# EAGLE library part LM536025QPWPRQ1 (library LM53602)
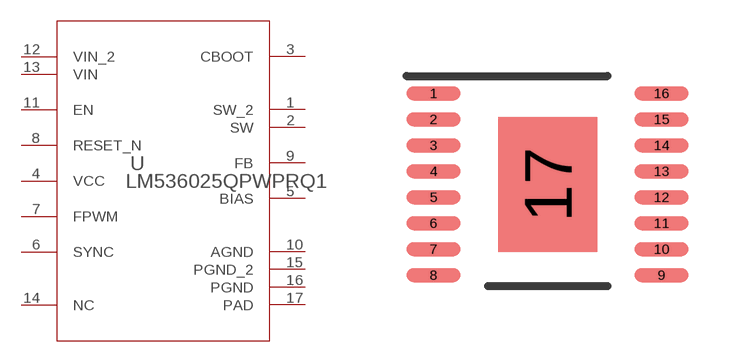
[diagram p0: symbol with the pads of PWP0016H_N; footprint PWP0016H_N]

Designator prefix U

## LM536025QPWPRQ1 (COMPTYPE: IC; MANUFACTURER: Texas Instruments; MANUFACTURER_NAME: Texas Instruments; MANUFACTURER_PART_NUMBER: LM536025QPWPRQ1; MOUNTTYPE: SMT; PACKAGEREFERENCE: PWP0016H; PARTNUMBER: LM536025QPWPQ1; PIN_COUNT: 17; REFDES: RefDes; ROHS: Y; TYPE: TYPE; VALUE: Value)  [PWP0016H_N]
1  SW_2  pwr
2  SW  pwr
3  CBOOT  pwr
4  VCC  pwr
5  BIAS  pwr
6  SYNC  in
7  FPWM  in
8  RESET_N  in
9  FB  in
10  AGND  pwr
11  EN  in
12  VIN_2  pwr
13  VIN  pwr
14  NC  pas
15  PGND_2  pwr
16  PGND  pwr
17  PAD  pwr

## Footprint PWP0016H_N (pad centres in mm)
smd 1.35 x 0.35: 1 -2.85,2.275; 2 -2.85,1.625; 3 -2.85,0.975; 4 -2.85,0.325; 5 -2.85,-0.325; 6 -2.85,-0.975; 7 -2.85,-1.625; 8 -2.85,-2.275; 9 2.85,-2.275; 10 2.85,-1.625; 11 2.85,-0.975; 12 2.85,-0.325; 13 2.85,0.325; 14 2.85,0.975; 15 2.85,1.625; 16 2.85,2.275
smd 2.48 x 3.37: 17 0,0